# Altium schematic symbol library PassiveComponents.SchLib: 22 symbols
Pins are listed as number, name and electrical type; pins without a type are passive.

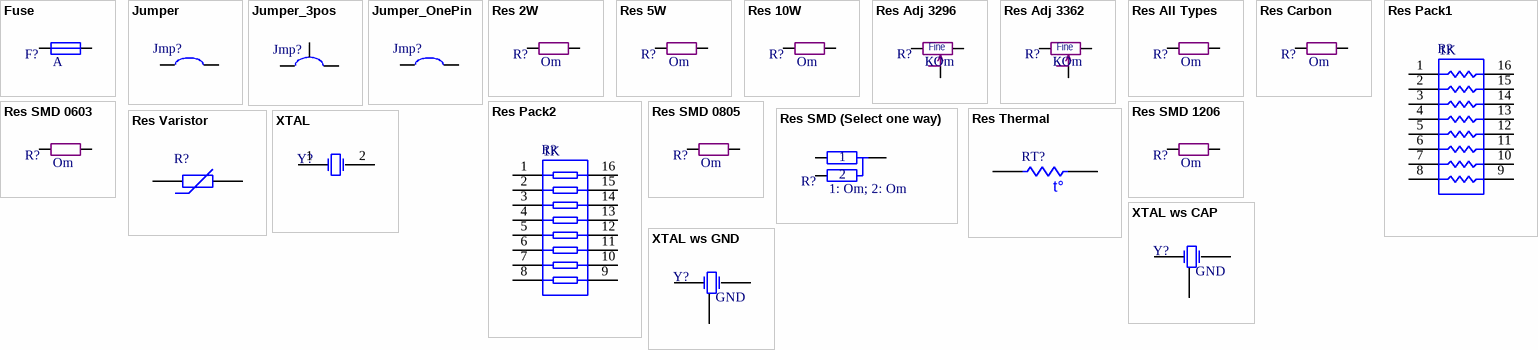
[diagram p0: symbols Fuse to XTAL ws GND]

## Fuse
designator F?, comment A
Round fuse
footprint Fuse 9p (Fuse horisontal)
footprint Fuse Car Mini (Fuse horisontal)
footprint Fuse Car F 5A (Fuse horisontal)
footprint Fuse Car F 7.5A (Fuse horisontal)
footprint Fuse Car F 10A (Fuse horisontal)
footprint Fuse Car F 15A (Fuse horisontal)
footprint Fuse Car F 25A (Fuse horisontal)
footprint Fuse Car F 20A (Fuse horisontal)
footprint Fuse 5x20 Open holder (Fuse horisontal)
footprint Fuse SM250 (Resettable 11A)
footprint Fuse MF-R300 (3A) (Resettable 11A)
footprint Fuse MF-R500 (5A) (Resettable 11A)
footprint Fuse RGE1100 (Resettable 11A)
pins: 1, 2

## Jumper
designator Jmp?  (value not drawn)
footprint Jumper 3p
footprint Jumper S 8x4
footprint Jumper S 13x4
footprint Jumper 2pos
pins: 1, 2

## Jumper_3pos
designator Jmp?  (value not drawn)
footprint Jumper 3pos
footprint Jumper 3pos ws Holes
pins: 1, 2, 3

## Jumper_OnePin
designator Jmp?  (value not drawn)
footprint Jumper D2mm
footprint Jumper D3mm
pins: 1, 2

## Res 2W
designator R?, comment Om
5W Cement
footprint Res p5 (3p) 2w (L p5mm; horisontal)
footprint Res p20.32 (9p) 2w (L p20.32; horisontal)
footprint Res 2W p15.24 (D5mm, Pin2pin 15.24mm)
pins: 1, 2

## Res 5W
designator R?, comment Om
5W Cement
footprint Res 5W L22mm, p30mm (L22mm p30; horisontal)
footprint Res 5W Lev2 L22mm, p30mm (Level 2 (second) L22mm p30; horisontal)
footprint Res 5W L22mm, p25mm (L22mm p25; horisontal)
footprint Res 5W Vert. p7.62 (L22mm p7.62; Vertical)
footprint Res 5W L22mm, p22.86 (L22mm pp22.86; horisontal)
pins: 1, 2

## Res 10W
designator R?, comment Om
10W Cement
footprint Res 10W L48mm, p49mm (L48mm p49; horisontal)
pins: 1, 2

## Res Adj 3296
designator R?, comment КOm
footprint Res Adj 2.54 X 3
footprint Res Adj 3296P
footprint Res Adj 3296 Univ
footprint Res Adj 3296X
pins: 1, 2, 3
text: Fine

## Res Adj 3362
designator R?, comment КOm
footprint Res Adj 3362P
pins: 1, 2, 3
text: Fine

## Res All Types
designator R?, comment Om
footprint Res p7.62 (4p) 0.25w (L p7.62; horisontal)
footprint Res 5W L22mm, p30mm (L22mm p30; horisontal)
footprint Res p5 (3p) 2w (L p5mm; horisontal)
footprint Res p20.32 (9p) 2w (L p20.32; horisontal)
footprint Res p27.94 W8mm (12p) (L p27.94 (11pin); horisontal)
footprint Res W5mm (10p) (L p22.86 (10pin); horisontal)
footprint SMD 0603 (1608)
footprint SMD 1206 (3216)
footprint Res 0.25w - 5p (L p7.62; horisontal)
footprint Res 0.25w - 6p (L p7.62; horisontal)
footprint Res 0.25w - 7p (L p7.62; horisontal)
footprint Res 0.25w - 8p (L p7.62; horisontal)
footprint SMD 0805 (2012) Long
footprint Res 2W p15.24 (D5mm, Pin2pin 15.24mm)
footprint SMD 0805 (2012)
footprint SMD 0805 (2012) (short)
footprint SMD 2512 (6432)
footprint Res 10W L48mm, p49mm (L48mm p49; horisontal)
pins: 1, 2

## Res Carbon
designator R?, comment Om
footprint Res p7.62 (4p) 0.25w (L p7.62; horisontal)
pins: 1, 2

## Res Pack1
designator R?  value 1K
Isolated Resistor Network; Published: 24-Mar-1999; LatestRevisionDate: 29-May-2009; LatestRevisionNote: IPC-7351 Footprint Added.; PackageReference: SO-16; Publisher: Altium Limited; PackageDescription: 16-Pin Small Outline Integrated Circuit 1.27 mm Pitch; Code_JEDEC: MS-012-AC; Code_IPC: SOIC127P600-16
footprint SO-16_N (SOIC, 16-Leads, Body 9.9x3.9mm, Pitch 1.27mm, IPC Medium Density)
footprint SO-16_L (SOIC, 16-Leads, Body 9.9x3.9mm, Pitch 1.27mm, IPC High Density)
footprint SO-16_M (SOIC, 16-Leads, Body 9.9x3.9mm, Pitch 1.27mm, IPC Low Density)
simulation model respack_8 (Spice Subcircuit)
pins: 1, 2, 3, 4, 5, 6, 7, 8, 9, 10, 11, 12, 13, 14, 15, 16

## Res Pack2
designator R?  value 1K
Isolated Resistor Network; Published: 24-Mar-1999; LatestRevisionDate: 29-May-2009; LatestRevisionNote: IPC-7351 Footprint Added.; PackageVersion: Oct-2003; PackageReference: SSOP16; Publisher: Altium Limited; PackageDescription: 16-Pin Plastic Small Outline Package 0.65 mm Pitch; Code_JEDEC: MO-150-AC; Code_IPC: SOP65P780-16
simulation model respack_8 (Spice Subcircuit)
pins: 1, 2, 3, 4, 5, 6, 7, 8, 9, 10, 11, 12, 13, 14, 15, 16

## Res SMD 0603
designator R?, comment Om
footprint SMD 0603 (1608)
footprint SMD 0805 (2012)
pins: 1, 2

## Res SMD 0805
designator R?, comment Om
footprint SMD 0805 (2012)
footprint SMD 0805 (2012) (short)
footprint SMD 0805 (2012) Long
pins: 1, 2

## Res SMD 1206
designator R?, comment Om
footprint SMD 1206 (3216)
pins: 1, 2

## Res SMD (Select one way)
designator R?, comment 1: Om; 2: Om
Choice from two resistors
footprint SMD 0805 (2012) Double
pins: 1, 2, 3

## Res Thermal
designator RT?
Thermistor; Published: 24-Mar-1999; LatestRevisionDate: 29-May-2009; LatestRevisionNote: IPC-7351 Footprint Added.; PackageVersion: Mar-2003; PackageReference: 6-0805; Publisher: Altium Limited; PackageDescription: Chip Resistor 0805 Case Size; Code_IPC: RESC2012
pins: 1, 2
text: t°

## Res Varistor
designator R?
Varistor (Voltage-Sensitive Resistor); Published: 24-Mar-1999; LatestRevisionDate: 29-May-2009; LatestRevisionNote: IPC-7351 Footprint Added.; PackageVersion: Mar-2003; PackageReference: 6-0805; Publisher: Altium Limited; PackageDescription: Chip Resistor 0805 Case Size; Code_IPC: RESC2012
pins: 1, 2

## XTAL
designator Y?
Crystal Oscillator; Published: 8-Jun-2000; LatestRevisionDate: 17-Jul-2002; LatestRevisionNote: Re-released for DXP Platform.; PackageReference: R38; Publisher: Altium Limited; PackageDescription: Crystal, Thru-Hole; 2 Leads; Body 3.1 x 8.2 mm (Dia.xH)
simulation model XTAL (Spice Subcircuit)
footprint XTAL - 1
footprint XTAL - 2
footprint XTAL - Clock
footprint XTAL - Clock R
footprint XTAL - SMD
pins: 1 OSC1, 2 OSC2

## XTAL ws CAP
designator Y?  (value not drawn)
3 Pin with Capacitors; PackageDescription: Crystal, SMD; 3 Pads; Body 3.2 x 1.2 x 1 mm; CSTCE16M0V53-R0 DatySheet: http://www.murata.com/~/media/webrenewal/support/library/catalog/products/timingdevice/ceralock/p17e.ashx
footprint XTAL - 3.2x1.2 SMD ws GND
pins: 1 OSC1, 2 OSC2, 3 GND

## XTAL ws GND
designator Y?  (value not drawn)
XTAL with GND on case
footprint XTAL - 5.0x3.2 SMD ws GND
pins: 1 OSC1, 2 OSC2, 3 GND